# EAGLE library part 50499-016 (library con-aces-50499-series)
ACES CONNECTORS 50499 SERIES ACES Connecors 50499 <https://www.acesconn.com/series/50499-xxxxx-xxx/1229>
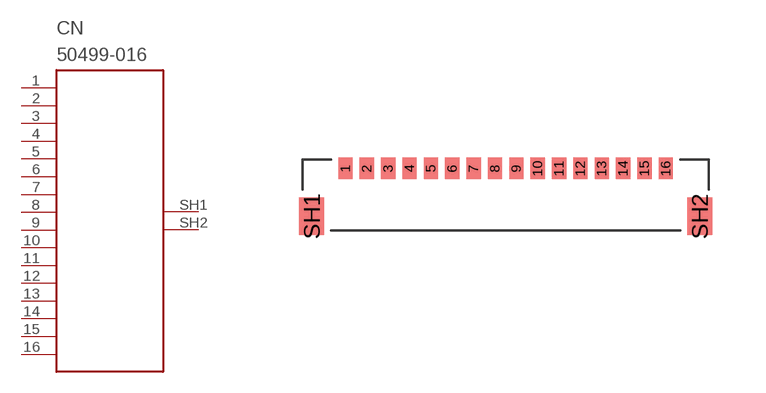
[diagram p7: symbol with the pads of 50499-016; footprint 50499-016]

Designator prefix CN

## 50499-016  [50499-016]
1  1
2  2
3  3
4  4
5  5
6  6
7  7
8  8
9  9
10  10
11  11
12  12
13  13
14  14
15  15
16  16
SH1  SH1
SH2  SH2

## Footprint 50499-016 (pad centres in mm)
smd 0.4 x 0.6: 1 -4.5,0; 2 -3.9,0; 3 -3.3,0; 4 -2.7,0; 5 -2.1,0; 6 -1.5,0; 7 -0.9,0; 8 -0.3,0; 9 0.3,0; 10 0.9,0; 11 1.5,0; 12 2.1,0; 13 2.7,0; 14 3.3,0; 15 3.9,0; 16 4.5,0
smd 0.7 x 1.05: SH1 -5.45,-1.35; SH2 5.45,-1.35